# Altium schematic symbol library SCH - CONNECTOR - WURTH - 7462810.SchLib: 1 symbol
Pins are listed as number, name and electrical type; pins without a type are passive.

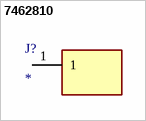
[diagram p0: symbol 7462810]

## 7462810
designator J?
Connector; Manufacturer_Name: Wurth Elektronik; Manufacturer_Part_Number: 7462810; Datasheet Link: https://katalog.we-online.com/em/datasheet/7462810.pdf; Height: 7mm; Mouser Part Number: 710-7462810; Mouser Price/Stock: https://www.mouser.co.uk/ProductDetail/Wurth-Elektronik/7462810?qs=wr8lucFkNMWEDEOCqa%252BaHw%3D%3D
footprint 7462810
pins: 1